# EAGLE library part 7499011222A (library my-Wurth-Elektronik)
LAN-Transformer WE-RJ45LAN 10/100BaseT
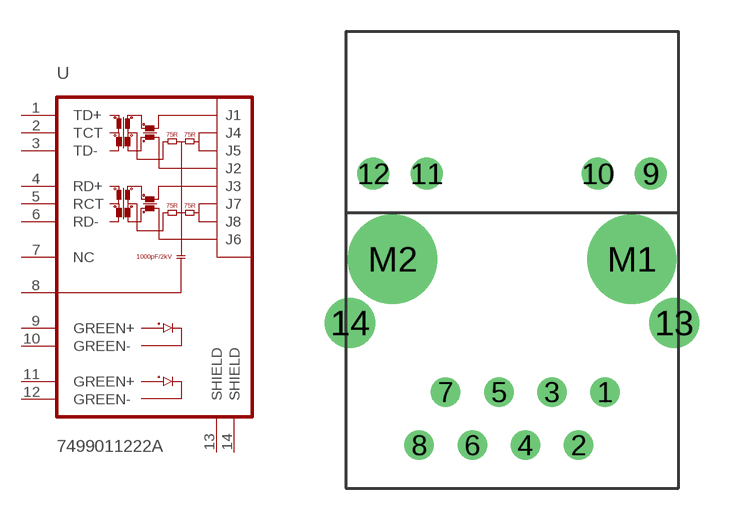
[diagram p2: symbol with the pads of RJ45-7499011222A; footprint RJ45-7499011222A]

Designator prefix -

## 7499011222A  [RJ45-7499011222A]
1  TD+
2  TCT
3  TD-
4  RD+
5  RCT
6  RD-
7  NC
8  8
9  GREEN+
10  GREEN-
11  GREEN+
12  GREEN-
13  SHIELD
14  SHIELD

## Footprint RJ45-7499011222A (pad centres in mm)
drill 0.9: 1 4.445,-6.35; 2 3.175,-8.89; 3 1.905,-6.35; 4 0.635,-8.89; 5 -0.635,-6.35; 6 -1.905,-8.89; 7 -3.175,-6.35; 8 -4.445,-8.89
drill 1.02: 9 6.63,4.08; 10 4.09,4.08; 11 -4.09,4.08; 12 -6.63,4.08
drill 1.6: 13 7.745,-3.05; 14 -7.745,-3.05
drill 3.25: M1 5.715,0; M2 -5.715,0